# EAGLE library part VERRUE_CPLD (library Mes_uC)
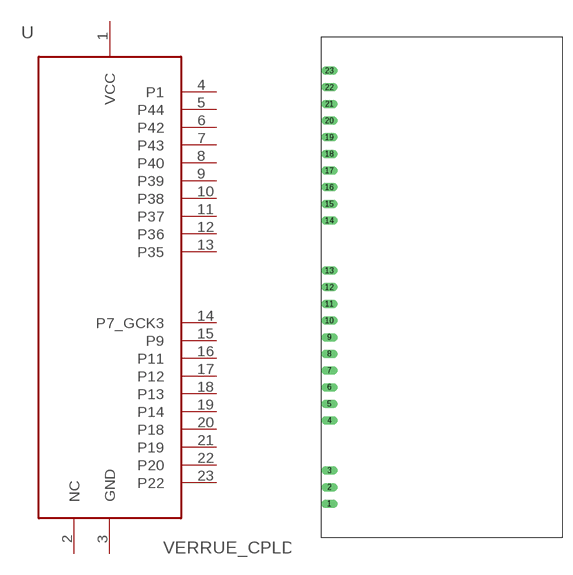
[diagram p7: symbol with the pads of VERRUE_CPLD; footprint VERRUE_CPLD]

Designator prefix U

## VERRUE_CPLD  [VERRUE_CPLD]
1  VCC  pwr
2  NC
3  GND  pwr
4  P1
5  P44
6  P42
7  P43
8  P40
9  P39
10  P38
11  P37
12  P36
13  P35
14  P7_GCK3
15  P9
16  P11
17  P12
18  P13
19  P14
20  P18
21  P19
22  P20
23  P22

## Footprint VERRUE_CPLD (pad centres in mm)
drill 0.6 pad 1.27 long: 1 1.27,-8.89; 2 1.27,-6.35; 3 1.27,-3.81; 4 1.27,3.81; 5 1.27,6.35; 6 1.27,8.89; 7 1.27,11.43; 8 1.27,13.97; 9 1.27,16.51; 10 1.27,19.05; 11 1.27,21.59; 12 1.27,24.13; 13 1.27,26.67; 14 1.27,34.29; 15 1.27,36.83; 16 1.27,39.37; 17 1.27,41.91; 18 1.27,44.45; 19 1.27,46.99; 20 1.27,49.53; 21 1.27,52.07; 22 1.27,54.61; 23 1.27,57.15